# Altium schematic symbol library 3296W-1-125LF.SchLib: 1 symbol
Pins are listed as number, name and electrical type; pins without a type are passive.

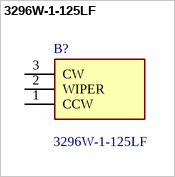
[diagram p0: symbol 3296W-1-125LF]

## 3296W-1-125LF
designator B?
Bourns 3296W Series 25-Turn Through Hole Cermet Trimmer Resistor with Solder Pin Terminations, 1.2M +/-10% 0.5W; Geometry.Height: 11.8mm; Manufacturer_Name: Bourns; Manufacturer_Part_Number: 3296W-1-125LF; Mouser Part Number: 652-3296W-1-125LF; Mouser Price/Stock: https://www.mouser.co.uk/ProductDetail/Bourns/3296W-1-125LF?qs=10P5Hhl%252BD7%252BlybYQKVv%2FRw%3D%3D; Arrow Part Number: 3296W-1-125LF; Arrow Price/Stock: https://www.arrow.com/en/products/3296w-1-125lf/bourns?region=nac; Datasheet Link: https://componentsearchengine.com/Datasheets/2/3296W-1-125LF.pdf
footprint 3296W1125LF
pins: 1 CCW, 2 WIPER, 3 CW